# Altium schematic symbol library IRF540N.SchLib: 1 symbol
Pins are listed as number, name and electrical type; pins without a type are passive.

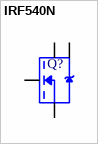
[diagram p0: symbol IRF540N]

## IRF540N
designator Q?
MP: IRF540NPBF; MF: Infineon; Value: *; SnapEDA_Link: https://www.snapeda.com/parts/IRF540NPBF/Infineon+Technologies/view-part/?ref=snap; Purchase-URL: https://pricing.snapeda.com/search/part/IRF540NPBF/?ref=eda; Check_prices: https://www.snapeda.com/parts/IRF540NPBF/Infineon+Technologies/view-part/?ref=eda; Availability: In Stock; Price: None; Package: TO-220 Infineon
footprint TO254P1054X469X2933-3
pins: 1 G, 2 D, 3 S, 4 Heat